# Altium schematic symbol library LED_GRN.Schlib: 1 symbol
Pins are listed as number, name and electrical type; pins without a type are passive.

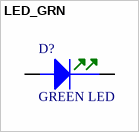
[diagram p0: symbol LED_GRN]

## LED_GRN
designator D?, comment GREEN LED
LED, Green
pins: A, C